# EAGLE library part ACS37010LLZATR-050B5 (library ACS37010LLZATR-050B5)
450 kHz, High Accuracy Current Sensor With FAULT or Reference Output in SOIC-6 Package Source: Datasheet <https://www.allegromicro.com/~/media/Files/Datasheets/ACS37010-2-Datasheet>
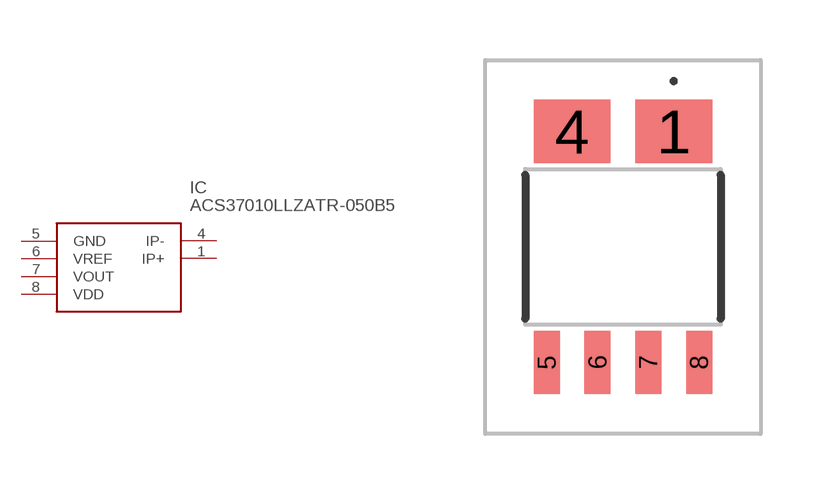
[diagram p0: symbol with the pads of ACS37010LLZATR050B5; footprint ACS37010LLZATR050B5]

Designator prefix IC

## ACS37010LLZATR-050B5 (Description: 450 kHz, High Accuracy Current Sensor With FAULT or Reference Output in SOIC-6 Package; Height: 1.82mm; Manufacturer_Name: Allegro Microsystems; Manufacturer_Part_Number: ACS37010LLZATR-050B5; Mouser_Part_Number: 250-37010LLZATR050B5; Mouser_Price-Stock: https://www.mouser.co.uk/ProductDetail/Allegro-MicroSystems/ACS37010LLZATR-050B5?qs=xZFQr2mActdw3y4eMiX2Bg%3D%3D)  [ACS37010LLZATR050B5]
1  IP+
4  IP-
5  GND
6  VREF
7  VOUT
8  VDD

## Footprint ACS37010LLZATR050B5 (pad centres in mm)
LZ
smd 1.92 x 1.58: 1 1.27,2.89; 4 -1.27,2.89
smd 0.65 x 1.58: 5 -1.905,-2.89; 6 -0.635,-2.89; 7 0.635,-2.89; 8 1.905,-2.89